# Altium footprint library sniffer.PcbLib: 16 footprints
Each footprint in its own frame and in the unit in brackets; x right, y up, seen from the top. Pads: shape width x height; smd on the part's side, far side on the other; paste and mask are expansions set on the pad; w line width, h text height; cw(c..) or ccw(c..) is an arc to the next point about the centre after c.
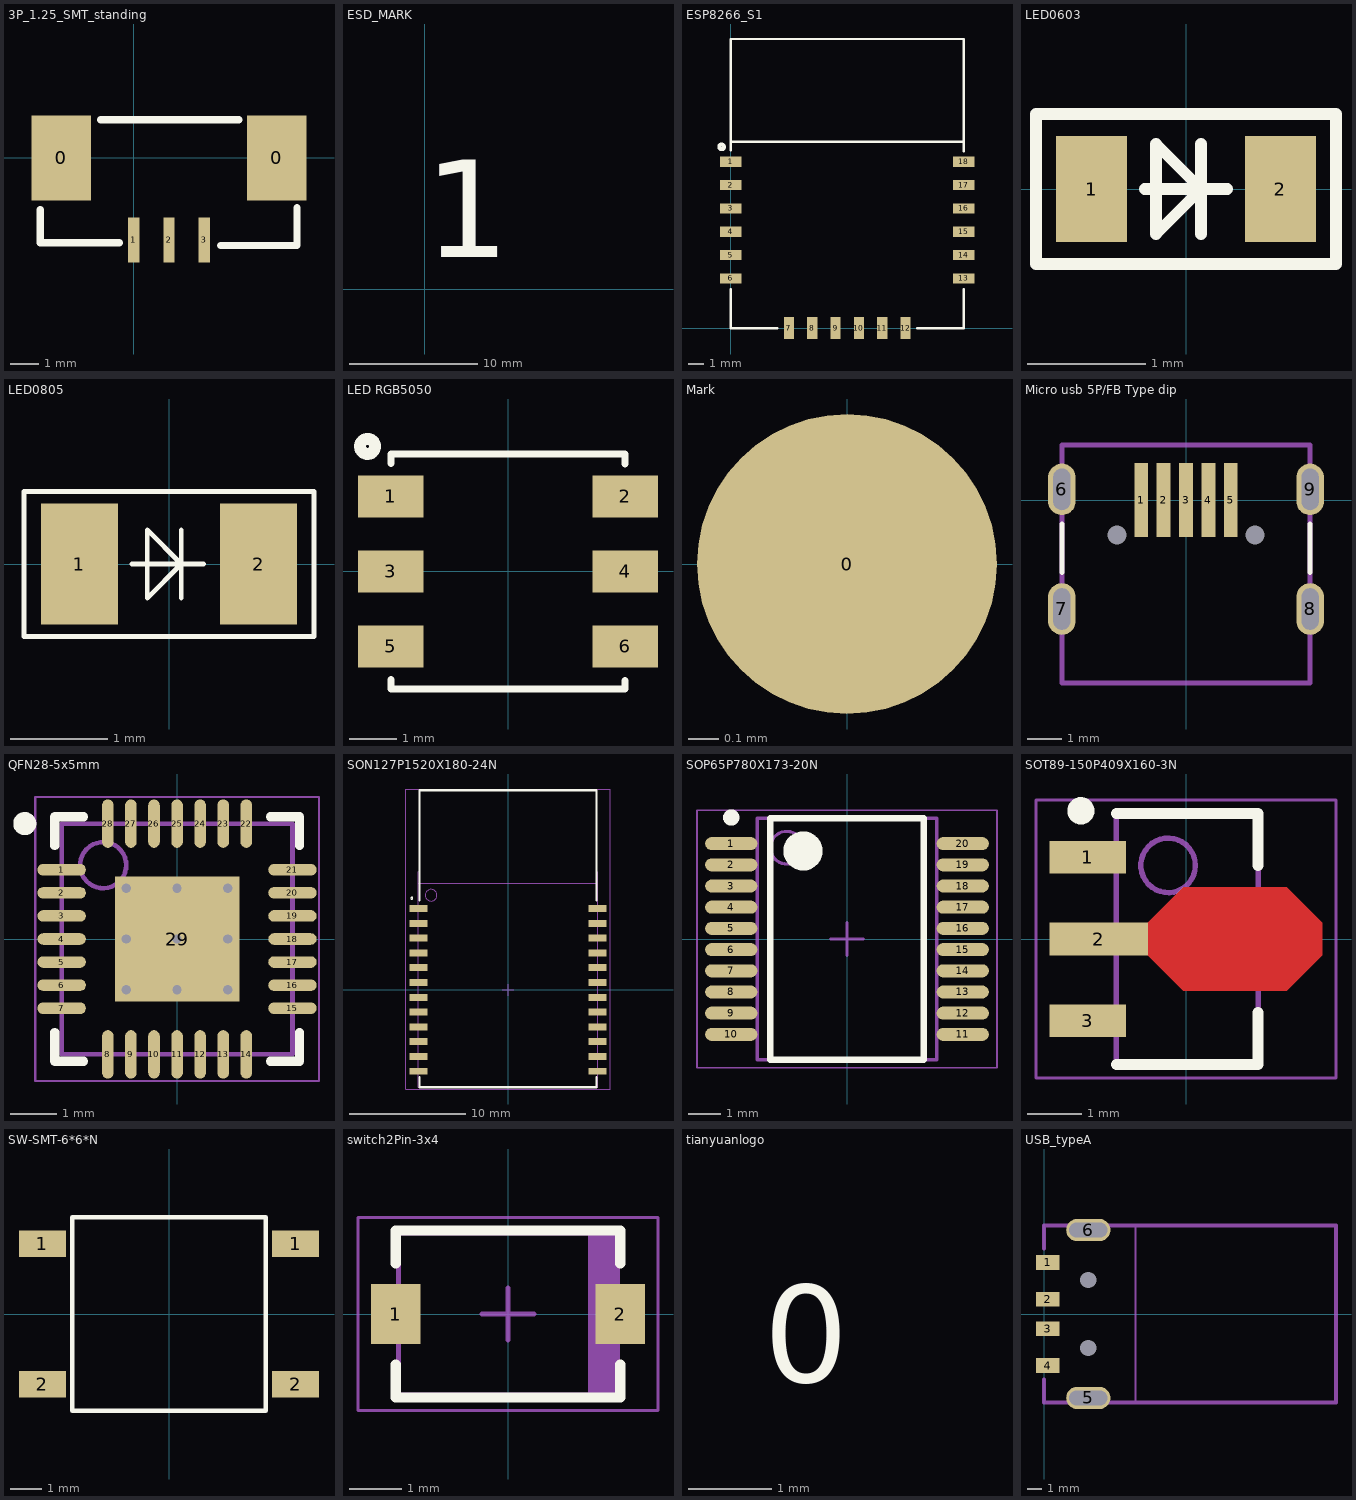
[diagram p0: the footprints below, top view; thin cyan lines are the x and y axes]

## 3P_1.25_SMT_standing [mm] "4.75"
height 4.75
pads (5):
  rect 2.1x3 smd: 0(-2.55,0) 0(5.05,0)
  rect 0.4x1.6 smd: 1(0,-2.9) 2(1.25,-2.9) 3(2.5,-2.9)
Top Overlay:
  lines w0.254: -3.3,-1.825 -3.3,-3 -0.5,-3 ; -1.175,1.35 3.725,1.35 ; 3.075,-3.1 5.775,-3.1 5.775,-1.75
3D body: height 4.6, standoff 3, extent -0.25,-0.375 0.125,0
3D body: height 3.2, standoff 0.1, extent 4.9,0 5.3,1.175
3D body: height 3.2, standoff 0.1, extent -2.725,-0.025 -2.375,1.2
3D body: height 3.1, standoff 0.1, extent -3.175,-2.875 5.65,1.189
3D body: height 4.6, standoff 3, extent 1.05,-0.375 1.45,0
3D body: height 4.6, standoff 3, extent 2.3,-0.375 2.7,0

## ESD_MARK [mm]
Top Overlay:
  text "1" at 0,0 h13

## ESP8266_S1 [mm]
height 3
pads (18):
  rect 1.4x0.65 smd: 1(0,10.7) 2(0,9.2) 3(0,7.7) 4(0,6.2) 5(0,4.7) 6(0,3.2) 13(15,3.2) 14(15,4.7) 15(15,6.2) 16(15,7.7) 17(15,9.2) 18(15,10.7)
  rect 0.65x1.4 smd: 7(3.75,0) 8(5.25,0) 9(6.75,0) 10(8.25,0) 11(9.75,0) 12(11.25,0)
Top Overlay:
  circle w0.254: c-0.584,11.659 r0.148
  lines w0.15: 0,2.5 0,0 3,0 ; 0,11.43 0,18.6 15,18.6 15,11.379 ; 0,12 15,12 ; 12,0 15,0 15,2.5
3D body: height 0.7, standoff 0, extent 0,0 14.986,18.567
3D body: height 3, standoff 0.7, extent 0.787,0.787 14.148,11.227

## LED0603 [mm]
pads (2):
  rect 0.6x0.9 smd: 1(-0.8,0) 2(0.8,0)
Top Overlay:
  lines w0.1: -0.35,0 0.35,0 ; 0.127,-0.381 0.127,0.381 ; -1.27,-0.635 1.27,-0.635 1.27,0.635 -1.27,0.635 -1.27,0.508 -1.27,-0.635 ; -0.254,-0.381 0.127,0 -0.254,0.381 -0.254,-0.381

## LED0805 [mm] "Molded Capacitor, 2-Leads, Body 1.70x0.85mm, IPC Medium Density"
height 1
pads (2):
  rect 0.8x1.25 smd: 1(-0.925,0) 2(0.925,0)
Top Overlay:
  lines w0.05: -0.381,0 0.356,0 ; 0.127,-0.35 0.127,0.35 ; -1.5,-0.75 1.5,-0.75 1.5,0.75 -1.5,0.75 -1.5,-0.75 ; -0.225,-0.352 -0.225,0.352 0.127,0 -0.225,-0.352

## LED RGB5050 [mm] "RGB LED 5x5mm"
height 1.6
pads (6):
  rect 1.4x0.9 smd: 1(-2.5,1.6) 2(2.5,1.6) 3(-2.5,0) 4(2.5,0) 5(-2.5,-1.6) 6(2.5,-1.6)
Top Overlay:
  circle w0.254: c-2.997,2.667 r0.161
  lines w0.15: -2.5,-2.301 -2.5,-2.51 2.5,-2.51 2.5,-2.326 ; -2.5,2.301 -2.5,2.51 2.5,2.51 2.5,2.297
3D body: height 1.61, standoff 0, extent -2,-2 2,2
3D body: height 1.6, standoff 0, extent -2.5,-2.5 2.5,2.5

## Mark [mm]
pads (1):
  round 1 smd paste+0.5 mask+0.5: 0(0,0)

## Micro usb 5P/FB Type dip [mm]
height 3.5
pads (11):
  round 0 hole 0.55: 0(-2,-1.01) 0(2,-1.01)
  rect 0.4x2.15 smd: 1(-1.3,0) 2(-0.65,0) 3(0,0) 4(0.65,0) 5(1.3,0)
  oval 0.8x1.5 hole 0.5 slot 1.2 at 90 deg unplated: 6(-3.6,0.31) 7(-3.6,-3.16) 8(3.6,-3.16) 9(3.6,0.31)
Top Overlay:
  lines w0.15: -3.6,-2.1 -3.6,-0.7 ; 3.6,-2.1 3.6,-0.7
Mechanical 15:
  lines w0.15: -3.6,-5.31 -3.6,1.6 3.6,1.6 3.6,-5.31 -3.6,-5.31
3D body: height 3, standoff 0, extent -3.607,-5.283 3.607,0.914

## QFN28-5x5mm [mm] "QFN, 28-Leads, Body 5.00x5.00mm, Pitch 0.50mm, Thermal Pad 2.95x2.95mm, IPC Medium Density"
height 1
pads (29):
  oval 1.05x0.25 smd: 1(-2.5,1.5) 2(-2.5,1) 3(-2.5,0.5) 4(-2.5,0) 5(-2.5,-0.5) 6(-2.5,-1) 7(-2.5,-1.5) 15(2.5,-1.5) 16(2.5,-1) 17(2.5,-0.5) 18(2.5,0) 19(2.5,0.5) 20(2.5,1) 21(2.5,1.5)
  oval 0.25x1.05 smd: 8(-1.5,-2.5) 9(-1,-2.5) 10(-0.5,-2.5) 11(0,-2.5) 12(0.5,-2.5) 13(1,-2.5) 14(1.5,-2.5) 22(1.5,2.5) 23(1,2.5) 24(0.5,2.5) 25(0,2.5) 26(-0.5,2.5) 27(-1,2.5) 28(-1.5,2.5)
  rect 2.7x2.7 smd: 29(0,0)
via 1.1,-1.1 diameter 0.5 hole 0.2
via 0,-1.1 diameter 0.5 hole 0.2
via -1.1,-1.1 diameter 0.5 hole 0.2
via 1.1,0 diameter 0.5 hole 0.2
via 0,0 diameter 0.5 hole 0.2
via -1.1,0 diameter 0.5 hole 0.2
via 1.1,1.1 diameter 0.5 hole 0.2
via 0,1.1 diameter 0.5 hole 0.2
via -1.1,1.1 diameter 0.5 hole 0.2
Top Overlay:
  circle w0.25: c-3.3,2.5 r0.125
  lines w0.2: -2.65,-2.025 -2.65,-2.65 -2.025,-2.65 ; -2.65,2.025 -2.65,2.65 -2.025,2.65 ; 2.025,-2.65 2.65,-2.65 2.65,-2.025 ; 2.025,2.65 2.65,2.65 2.65,2.025
Mechanical 13:
  circle w0.1: c-1.6,1.6 r0.5
  lines w0.1: -2.5,-2.5 2.5,-2.5 2.5,2.5 -2.5,2.5 -2.5,-2.5
Mechanical 15:
  lines w0.05: -3.075,-3.075 3.075,-3.075 3.075,3.075 -3.075,3.075 -3.075,-3.075
  lines w0.1: -0.5,0 0.5,0 ; 0,-0.5 0,0.5
3D body: height 1, standoff 0, extent -2.5,-2.5 2.5,2.5

## SON127P1520X180-24N [mm] "SON, 24-Leads, Body 25.25x15.25mm, Pitch 1.27mm, IPC Medium Density"
height 1.8
pads (24):
  rect 1.55x0.6 smd: 1(-7.7,6.985) 2(-7.7,5.715) 3(-7.7,4.445) 4(-7.7,3.175) 5(-7.7,1.905) 6(-7.7,0.635) 7(-7.7,-0.635) 8(-7.7,-1.905) 9(-7.7,-3.175) 10(-7.7,-4.445) 11(-7.7,-5.715) 12(-7.7,-6.985) 13(7.7,-6.985) 14(7.7,-5.715) 15(7.7,-4.445) 16(7.7,-3.175) 17(7.7,-1.905) 18(7.7,-0.635) 19(7.7,0.635) 20(7.7,1.905) 21(7.7,3.175) 22(7.7,4.445) 23(7.7,5.715) 24(7.7,6.985)
Top Overlay:
  circle w0.1: c-8.255,7.874 r0.086
  lines w0.2: -7.6,-7.5 -7.6,-8.36 7.6,-8.36 7.6,-7.5 ; -7.6,7.685 -7.6,17.145 7.6,17.145 7.6,7.685
Mechanical 13:
  circle w0.1: c-6.604,8.128 r0.5
  lines w0.1: -7.7,9.16 7.7,9.16 ; -7.7,10.16 -7.7,-8.38 7.7,-8.38 7.7,10.16
Mechanical 15:
  lines w0.05: -8.763,-8.509 -8.763,17.245 8.763,17.245 8.763,-8.509 -8.763,-8.509
  lines w0.1: -0.5,0 0.5,0 ; 0,-0.5 0,0.5
3D body: height 1.8, standoff 0.1, extent -7.747,-8.255 7.753,17.05

## SOP65P780X173-20N [mm] "SOP, 20-Leads, Body 7.20x5.30mm, Pitch 0.65mm, IPC Medium Density"
height 1.73
pads (20):
  oval 1.6x0.4 smd: 1(-3.55,2.925) 2(-3.55,2.275) 3(-3.55,1.625) 4(-3.55,0.975) 5(-3.55,0.325) 6(-3.55,-0.325) 7(-3.55,-0.975) 8(-3.55,-1.625) 9(-3.55,-2.275) 10(-3.55,-2.925) 11(3.55,-2.925) 12(3.55,-2.275) 13(3.55,-1.625) 14(3.55,-0.975) 15(3.55,-0.325) 16(3.55,0.325) 17(3.55,0.975) 18(3.55,1.625) 19(3.55,2.275) 20(3.55,2.925)
Top Overlay:
  circle w0.25: c-3.55,3.725 r0.125
  circle w0.6: c-1.35,2.7 r0.3
  lines w0.2: -2.35,-3.7 -2.35,3.7 2.35,3.7 2.35,-3.7 -2.35,-3.7
Mechanical 13:
  circle w0.1: c-1.85,2.8 r0.5
  lines w0.1: -2.75,-3.7 -2.75,3.7 2.75,3.7 2.75,-3.7 -2.75,-3.7
Mechanical 15:
  lines w0.05: -4.6,-3.95 -4.6,3.95 4.6,3.95 4.6,-3.95 -4.6,-3.95
  lines w0.1: -0.5,0 0.5,0 ; 0,-0.5 0,0.5
3D body: height 1.73, standoff 0.1, extent -2.75,-3.7 2.75,3.7

## SOT89-150P409X160-3N [mm] "SOT89, 3-Leads, Body 4.50x2.45mm, Pitch 1.50mm, Lead Span 4.1mm, IPC Medium Density"
height 1.6
pads (3):
  rect 1.4x0.6 smd: 1(-1.8,1.5) 3(-1.8,-1.5)
  rect 1.8x0.6 smd: 2(-1.6,0)
Top Layer:
  region: -0.7,0.3 -0.05,0.95 1.85,0.95 2.5,0.3 2.5,-0.3 1.85,-0.95 -0.05,-0.95 -0.7,-0.3
Top Overlay:
  circle w0.25: c-1.927,2.35 r0.125
  lines w0.2: -1.278,-2.3 1.322,-2.3 1.322,-1.35 ; -1.278,2.3 1.322,2.3 1.322,1.35
Mechanical 13:
  circle w0.1: c-0.327,1.35 r0.5
  lines w0.1: -1.278,-2.3 1.322,-2.3 1.322,2.3 -1.278,2.3 -1.278,-2.3
Mechanical 15:
  lines w0.05: -2.75,-2.55 2.75,-2.55 2.75,2.55 -2.75,2.55 -2.75,-2.55
  lines w0.1: -0.477,0 0.523,0 ; 0.022,-0.5 0.022,0.5
3D body: height 1.6, standoff 0, extent -1.278,-2.3 1.322,2.3

## SW-SMT-6*6*N [mm] "贴片6x6按键"
pads (4):
  rect 1.5x0.85 smd: 1(-4.05,2.25) 1(4.05,2.25) 2(-4.05,-2.25) 2(4.05,-2.25)
Top Overlay:
  lines w0.15: -3.1,-3.1 3.1,-3.1 3.1,3.1 -3.1,3.1 -3.1,-3.1
3D body: height 5, standoff 3, extent -1.7,-1.697 1.7,1.697
3D body: height 3.4, standoff 3.1, extent -2.9,-2.9 2.9,2.9
3D body: height 3.4, standoff 0.2, extent -3,-3 3,3

## switch2Pin-3x4 [mm] "3*4 龟仔/微动/轻触开关 2-Leads, Body 4.10x3.05mm, IPC Medium Density"
height 2
pads (2):
  rect 0.95x1.15 smd: 1(-2.15,0) 2(2.15,0)
Top Overlay:
  lines w0.2: -2.15,-0.975 -2.15,-1.6 2.15,-1.6 2.15,-0.975 ; -2.15,0.975 -2.15,1.6 2.15,1.6 2.15,0.975
Mechanical 13:
  rectangle: 1.535,-1.55 2.1,1.55
  lines w0.1: -2.1,-1.55 -2.1,1.55 2.1,1.55 2.1,-1.55 -2.1,-1.55
Mechanical 15:
  lines w0.05: -2.875,-1.85 -2.875,1.85 2.875,1.85 2.875,-1.85 -2.875,-1.85
  lines w0.1: -0.5,0 0.5,0 ; 0,-0.5 0,0.5
3D body: height 2, standoff 0, extent -2.1,-1.55 2.1,1.55
3D body: height 3, standoff 0, extent -0.744,-0.748 0.75,0.749

## tianyuanlogo [mm]
Top Overlay:
  text "0" at -7.5,-5.5 h2

## USB_typeA [mm]
pads (8):
  rect 1.6x1 smd: 1(0.25,3.5) 2(0.25,1) 3(0.25,-1) 4(0.25,-3.5)
  oval 3x1.524 hole 1 slot 2.6 at 0 deg: 5(3,-5.7) 6(3,5.7)
  round 0 hole 1.1: 7(3,-2.3) 8(3,2.3)
Mechanical 1:
  lines w0.254: 0,-4.445 0,-6 19.812,-6 19.812,6 0,6 0,4.445
Mechanical 15:
  lines w0.15: 6.2,-5.969 6.2,5.969
3D body: height 4.1, standoff 3.9, extent 12.065,1.27 15.24,3.81
3D body: height 4.1, standoff 3.9, extent 12.065,-3.81 15.24,-1.27
3D body: height 4, standoff 0, extent 0,-6 19.812,6